# Altium footprint library Capacitor.PcbLib: 6 footprints
Each footprint in its own frame and in the unit in brackets; x right, y up, seen from the top. Pads: shape width x height; smd on the part's side, far side on the other; paste and mask are expansions set on the pad; w line width, h text height; cw(c..) or ccw(c..) is an arc to the next point about the centre after c.
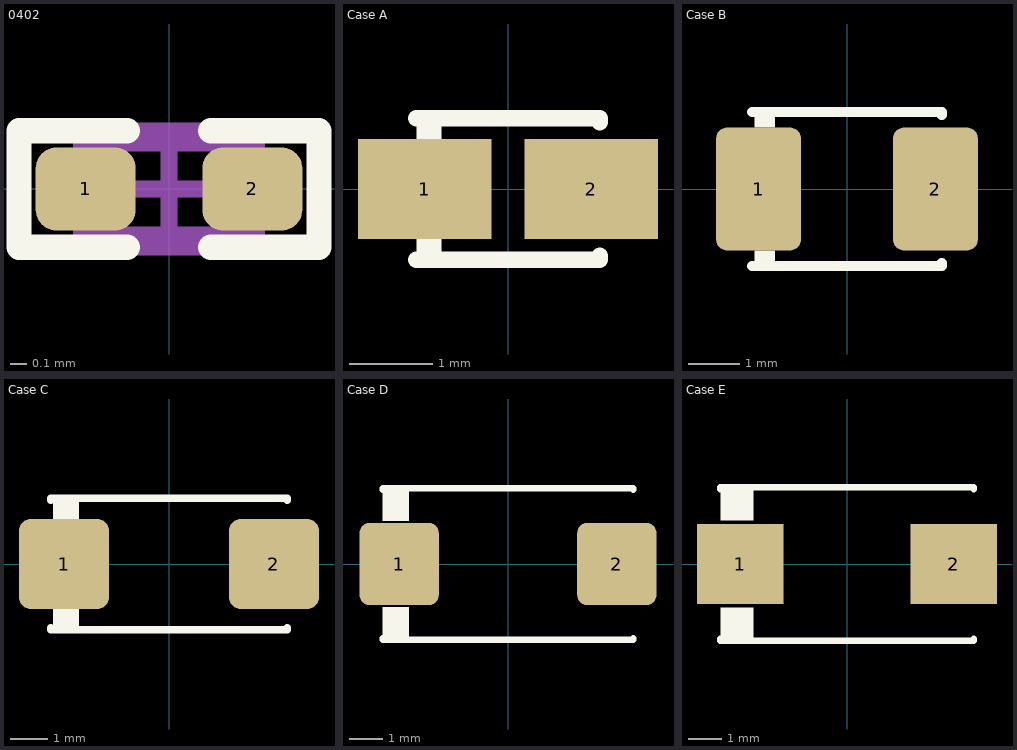
[diagram p0: the footprints below, top view; thin cyan lines are the x and y axes]

## 0402 [mm]
pads (2):
  rrect50% 0.6x0.5 smd: 1(-0.5,0) 2(0.5,0)
Top Overlay:
  lines w0.152: -0.25,-0.35 -0.9,-0.35 -0.9,0.35 -0.25,0.35 ; 0.25,-0.35 0.9,-0.35 0.9,0.35 0.25,0.35
Mechanical 7:
  lines w0.1: -0.525,-0.275 -0.525,0.275 0.525,0.275 0.525,-0.275 -0.525,-0.275
Mechanical 15:
  lines w0.1: -0.275,0 0.275,0 ; 0,-0.275 0,0.275 ; -0.9,-0.35 0.9,-0.35 0.9,0.35 -0.9,0.35 -0.9,-0.35
3D body "User Library-0402(1005M) Cap.step": height 0.5, standoff -0.01, extent -0.508,-0.254 0.508,0.254

## Case A [mm]
pads (2):
  rect 1.6x1.2 smd: 1(-1,0) 2(1,0)
Top Overlay:
  rectangle: -1.1,-0.8 -0.8,-0.6
  region: -0.8,0.8 -1.1,0.8 -1.1,0.6 -0.8,0.6
  lines w0.2: -1.1,-0.85 1.1,-0.85 1.1,-0.8 ; -1.1,0.85 1.1,0.85 1.1,0.8

## Case B [mm]
pads (2):
  rrect25% 1.65x2.4 smd: 1(-1.725,0) 2(1.725,0)
Top Overlay:
  rectangle: -1.8,1.2 -1.4,1.4
  rectangle: -1.8,-1.4 -1.4,-1.2
  lines w0.2: -1.85,-1.5 1.85,-1.5 1.85,-1.45 ; -1.85,1.5 1.85,1.5 1.85,1.45
3D body "EL Case B (3528-21).STEP": height 1.91, standoff 0, extent -1.746,-1.4 1.746,1.4

## Case C [mm]
pads (2):
  rrect25% 2.4x2.4 smd: 1(-2.8,0) 2(2.8,0)
Top Overlay:
  rectangle: -3.1,-1.7 -2.4,-1.2
  rectangle: -3.1,1.2 -2.4,1.7
  lines w0.2: -3.15,-1.7 -3.15,-1.75 3.15,-1.75 3.15,-1.7 ; -3.15,1.7 -3.15,1.75 3.15,1.75 3.15,1.7
3D body "EL Case C (6032-28).STEP": height 2.51, standoff 0, extent -2.997,-1.6 2.997,1.6

## Case D [mm]
pads (2):
  rrect25% 2.4x2.5 smd: 1(-3.3,0) 2(3.3,0)
Top Overlay:
  rectangle: -3.8,-2.2 -3,-1.3
  rectangle: -3.8,1.3 -3,2.3
  lines w0.2: -3.8,-2.25 -3.8,-2.3 3.8,-2.3 3.8,-2.25 ; -3.8,2.25 -3.8,2.3 3.8,2.3 3.8,2.25
3D body "EL Case D (7343-31).STEP": height 2.81, standoff 0, extent -3.647,-2.15 3.647,2.15

## Case E [mm]
pads (2):
  rect 2.6x2.4 smd: 1(-3.2,0) 2(3.2,0)
Top Overlay:
  rectangle: -3.8,1.3 -2.8,2.2
  rectangle: -3.8,-2.2 -2.8,-1.3
  lines w0.2: -3.8,-2.25 -3.8,-2.3 3.8,-2.3 3.8,-2.25 ; -3.8,2.25 -3.8,2.3 3.8,2.3 3.8,2.25
3D body "EL Case E (7343-43).STEP": height 4.11, standoff 0, extent -3.647,-2.15 3.647,2.15